# Altium schematic symbol library intlib_link.SchLib: 1 symbol
Pins are listed as number, name and electrical type; pins without a type are passive.

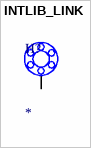
[diagram p0: symbol INTLIB_LINK]

## INTLIB_LINK
designator H?  (no BOM)
A symbol taken from an integrated library; Value: *
footprint PLANE_DIRECT (Footprint)
pins: 1, 2, 3, 4, 5, 6, 7